# Altium schematic symbol library 2894.SchLib: 1 symbol
Pins are listed as number, name and electrical type; pins without a type are passive.

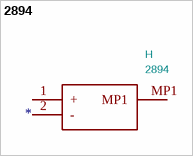
[diagram p0: symbol 2894]

## 2894
designator H  value 2894
Coin Cell Battery Holders CR1220 COIN CELL SMT RETAINER; Manufacturer_Name: Keystone Electronics; Footprint: 2894; Supplier: https://www.keyelco.com/product-pdf.cfm?p=14467; Description_: Coin Cell Battery Holders CR1220 COIN CELL SMT RETAINER; Height: 2.42; Manufacturer_Part_Number: 2894; Mouser Part Number: 534-2894; Mouser Price/Stock: https://www.mouser.com/Search/Refine.aspx?Keyword=534-2894
footprint 2894
pins: 1 +, 2 -, MP1